# Altium schematic symbol library ECS-.327-9-34R-TR.SchLib: 1 symbol
Pins are listed as number, name and electrical type; pins without a type are passive.

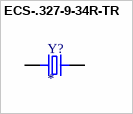
[diagram p0: symbol ECS-.327-9-34R-TR]

## ECS-.327-9-34R-TR
designator Y?
Crystal  2-SMD, No Lead; MP: ECS-.327-9-34R-TR; Package: None; Price: None; Value: *; Availability: Unavailable
footprint XTAL_ECS-.327-9-34R-TR
pins: 1 IN/OUT, 2 OUT/IN